# Altium footprint library pinhead.PCBLIB: 100 footprints (part 5 of 7)
Each footprint in its own frame and in the unit in brackets; x right, y up, seen from the top. Pads: shape width x height; smd on the part's side, far side on the other; paste and mask are expansions set on the pad; w line width, h text height; cw(c..) or ccw(c..) is an arc to the next point about the centre after c.
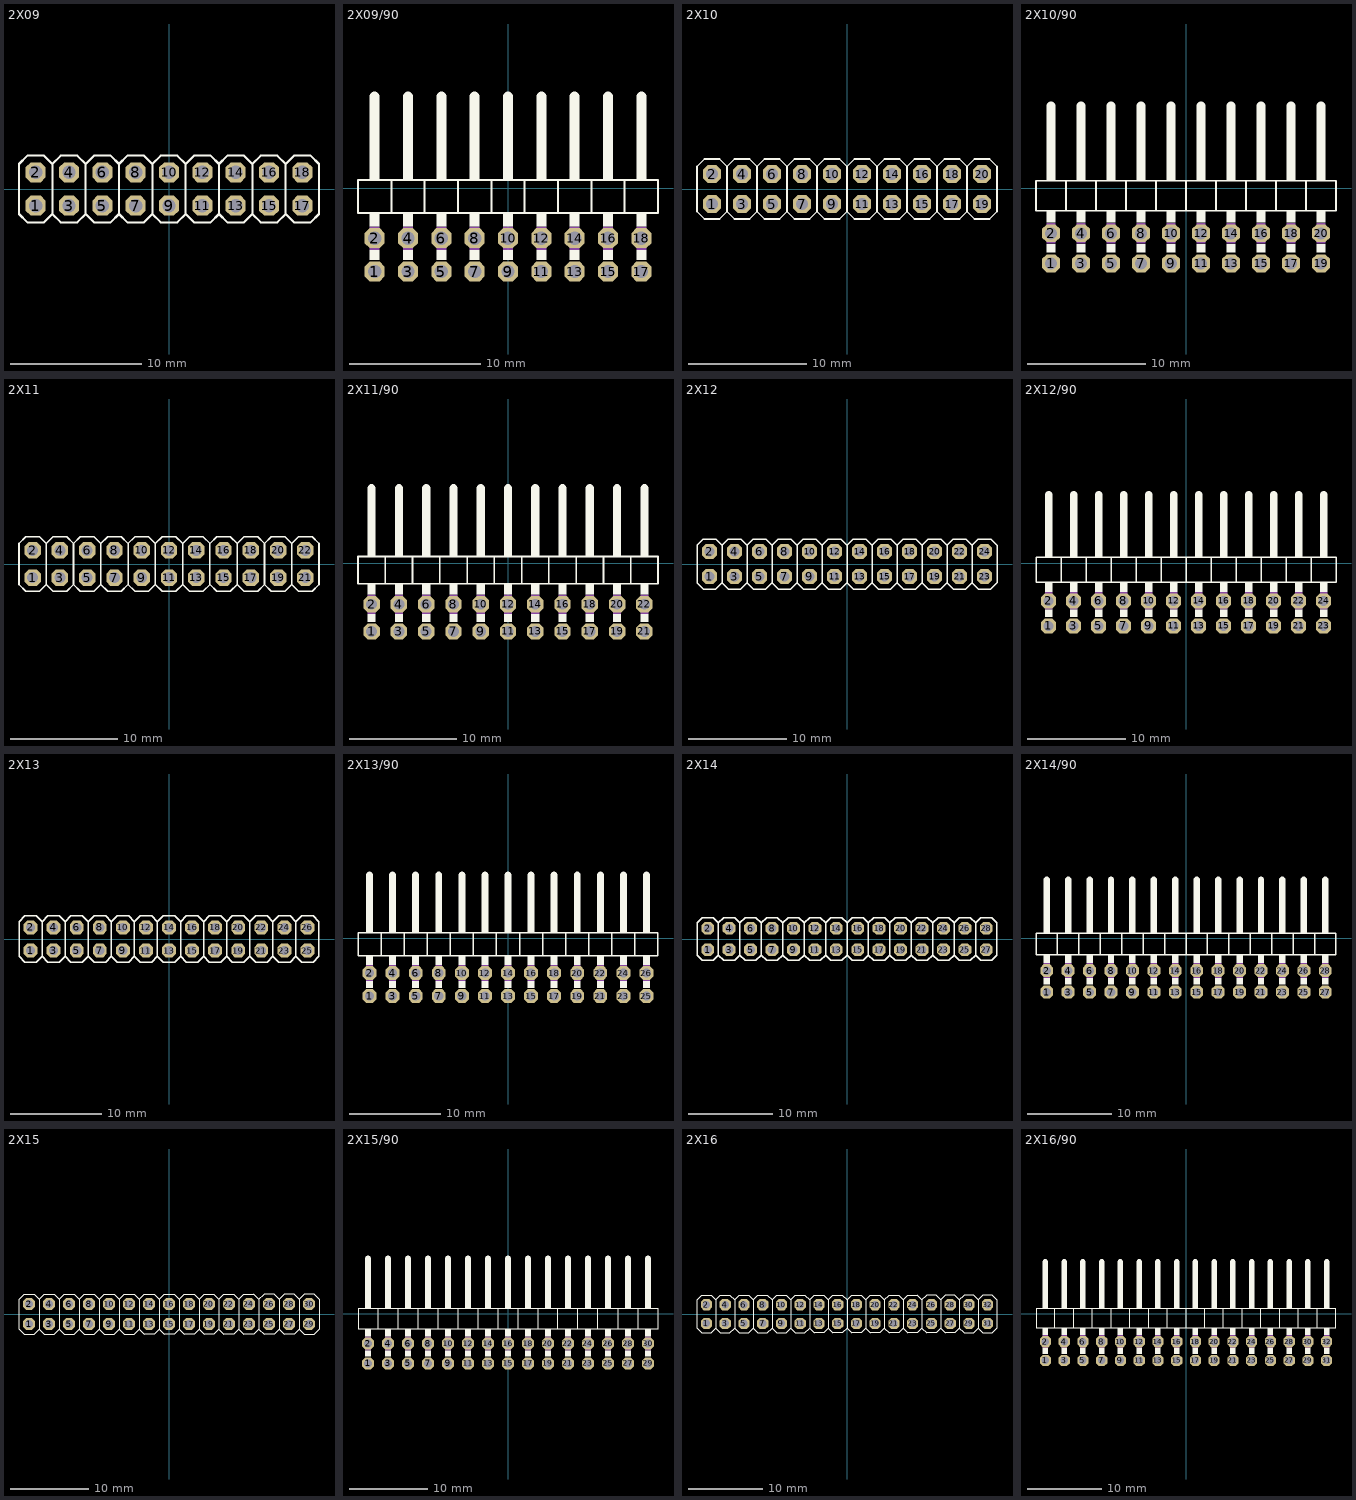
[diagram p4: the footprints below, top view; thin cyan lines are the x and y axes]

## 2X09 [mil]
pads (18):
  oct 60x60 hole 40: 1(-400,-50) 2(-400,50) 3(-300,-50) 4(-300,50) 5(-200,-50) 6(-200,50) 7(-100,-50) 8(-100,50) 9(0,-50) 10(0,50) 11(100,-50) 12(100,50) 13(200,-50) 14(200,50) 15(300,-50) 16(300,50) 17(400,-50) 18(400,50)
Top Overlay:
  lines w6: -350,-75 -375,-100 -425,-100 -450,-75 -450,75 -425,100 -375,100 -350,75 ; -350,-75 -325,-100 -275,-100 -250,-75 ; -350,-75 -350,75 ; -350,75 -325,100 -275,100 -250,75 ; -250,-75 -225,-100 -175,-100 -150,-75 ; -250,-75 -250,75 ; -250,75 -225,100 -175,100 -150,75 ; -150,-75 -125,-100 -75,-100 -50,-75 ; -150,-75 -150,75 ; -150,75 -125,100 -75,100 -50,75 ; -50,-75 -25,-100 25,-100 50,-75 ; -50,-75 -50,75 ; -50,75 -25,100 25,100 50,75 ; 50,-75 75,-100 125,-100 150,-75 ; 50,-75 50,75 ; 50,75 75,100 125,100 150,75 ; 150,-75 175,-100 225,-100 250,-75 ; 150,-75 150,75 ; 150,75 175,100 225,100 250,75 ; 250,-75 275,-100 325,-100 350,-75 ; 250,-75 250,75 ; 250,75 275,100 325,100 350,75 ; 350,-75 350,75 ; 350,-75 375,-100 425,-100 450,-75 450,75 425,100 375,100 350,75
Mechanical 16:
  rectangle: -410,-60 -390,-40
  rectangle: -410,40 -390,60
  rectangle: -310,40 -290,60
  rectangle: -310,-60 -290,-40
  rectangle: -210,40 -190,60
  rectangle: -210,-60 -190,-40
  rectangle: -110,40 -90,60
  rectangle: -10,40 10,60
  rectangle: 90,40 110,60
  rectangle: -110,-60 -90,-40
  rectangle: -10,-60 10,-40
  rectangle: 90,-60 110,-40
  rectangle: 190,40 210,60
  rectangle: 190,-60 210,-40
  rectangle: 290,40 310,60
  rectangle: 290,-60 310,-40
  rectangle: 390,40 410,60
  rectangle: 390,-60 410,-40

## 2X09/90 [mil]
pads (18):
  oct 60x60 hole 40: 1(-400,-250) 2(-400,-150) 3(-300,-250) 4(-300,-150) 5(-200,-250) 6(-200,-150) 7(-100,-250) 8(-100,-150) 9(0,-250) 10(0,-150) 11(100,-250) 12(100,-150) 13(200,-250) 14(200,-150) 15(300,-250) 16(300,-150) 17(400,-250) 18(400,-150)
Top Overlay:
  rectangle: -415,25 -385,45
  rectangle: -315,25 -285,45
  rectangle: -215,25 -185,45
  rectangle: -115,25 -85,45
  rectangle: -15,25 15,45
  rectangle: 85,25 115,45
  rectangle: 185,25 215,45
  rectangle: 285,25 315,45
  rectangle: 385,25 415,45
  rectangle: -415,-115 -385,-75
  rectangle: -315,-115 -285,-75
  rectangle: -415,-215 -385,-185
  rectangle: -315,-215 -285,-185
  rectangle: -215,-115 -185,-75
  rectangle: -115,-115 -85,-75
  rectangle: -215,-215 -185,-185
  rectangle: -115,-215 -85,-185
  rectangle: -15,-115 15,-75
  rectangle: 85,-115 115,-75
  rectangle: -15,-215 15,-185
  rectangle: 85,-215 115,-185
  rectangle: 185,-115 215,-75
  rectangle: 285,-115 315,-75
  rectangle: 185,-215 215,-185
  rectangle: 285,-215 315,-185
  rectangle: 385,-115 415,-75
  rectangle: 385,-215 415,-185
  lines w6: -350,-75 -450,-75 -450,25 -350,25 ; -350,-75 -350,25 ; -350,-75 -250,-75 ; -350,25 -250,25 ; -250,-75 -250,25 ; -250,-75 -150,-75 ; -250,25 -150,25 ; -150,-75 -150,25 ; -150,-75 -50,-75 ; -150,25 -50,25 ; -50,-75 -50,25 ; -50,-75 50,-75 ; -50,25 50,25 ; 50,-75 50,25 ; 50,-75 150,-75 ; 50,25 150,25 ; 150,-75 150,25 ; 150,-75 250,-75 ; 150,25 250,25 ; 250,-75 250,25 ; 250,-75 350,-75 ; 250,25 350,25 ; 350,-75 350,25 ; 350,-75 450,-75 450,25 350,25
  lines w30: -400,50 -400,275 ; -300,50 -300,275 ; -200,50 -200,275 ; -100,50 -100,275 ; 0,50 0,275 ; 100,50 100,275 ; 200,50 200,275 ; 300,50 300,275 ; 400,50 400,275
Mechanical 16:
  rectangle: -415,-185 -385,-115
  rectangle: -315,-185 -285,-115
  rectangle: -215,-185 -185,-115
  rectangle: -115,-185 -85,-115
  rectangle: -15,-185 15,-115
  rectangle: 85,-185 115,-115
  rectangle: 185,-185 215,-115
  rectangle: 285,-185 315,-115
  rectangle: 385,-185 415,-115

## 2X10 [mil]
pads (20):
  oct 60x60 hole 40: 1(-450,-50) 2(-450,50) 3(-350,-50) 4(-350,50) 5(-250,-50) 6(-250,50) 7(-150,-50) 8(-150,50) 9(-50,-50) 10(-50,50) 11(50,-50) 12(50,50) 13(150,-50) 14(150,50) 15(250,-50) 16(250,50) 17(350,-50) 18(350,50) 19(450,-50) 20(450,50)
Top Overlay:
  lines w6: -400,-75 -425,-100 -475,-100 -500,-75 -500,75 -475,100 -425,100 -400,75 ; -400,-75 -375,-100 -325,-100 -300,-75 ; -400,-75 -400,75 ; -400,75 -375,100 -325,100 -300,75 ; -300,-75 -275,-100 -225,-100 -200,-75 ; -300,-75 -300,75 ; -300,75 -275,100 -225,100 -200,75 ; -200,-75 -175,-100 -125,-100 -100,-75 ; -200,-75 -200,75 ; -200,75 -175,100 -125,100 -100,75 ; -100,-75 -75,-100 -25,-100 0,-75 ; -100,-75 -100,75 ; -100,75 -75,100 -25,100 0,75 ; 0,-75 25,-100 75,-100 100,-75 ; 0,-75 0,75 ; 0,75 25,100 75,100 100,75 ; 100,-75 125,-100 175,-100 200,-75 ; 100,-75 100,75 ; 100,75 125,100 175,100 200,75 ; 200,-75 225,-100 275,-100 300,-75 ; 200,-75 200,75 ; 200,75 225,100 275,100 300,75 ; 300,-75 325,-100 375,-100 400,-75 ; 300,-75 300,75 ; 300,75 325,100 375,100 400,75 ; 400,-75 400,75 ; 400,-75 425,-100 475,-100 500,-75 500,75 475,100 425,100 400,75
Mechanical 16:
  rectangle: -460,-60 -440,-40
  rectangle: -460,40 -440,60
  rectangle: -360,40 -340,60
  rectangle: -360,-60 -340,-40
  rectangle: -260,40 -240,60
  rectangle: -260,-60 -240,-40
  rectangle: -160,40 -140,60
  rectangle: -60,40 -40,60
  rectangle: 40,40 60,60
  rectangle: -160,-60 -140,-40
  rectangle: -60,-60 -40,-40
  rectangle: 40,-60 60,-40
  rectangle: 140,40 160,60
  rectangle: 140,-60 160,-40
  rectangle: 240,40 260,60
  rectangle: 240,-60 260,-40
  rectangle: 340,40 360,60
  rectangle: 340,-60 360,-40
  rectangle: 440,40 460,60
  rectangle: 440,-60 460,-40

## 2X10/90 [mil]
pads (20):
  oct 60x60 hole 40: 1(-450,-250) 2(-450,-150) 3(-350,-250) 4(-350,-150) 5(-250,-250) 6(-250,-150) 7(-150,-250) 8(-150,-150) 9(-50,-250) 10(-50,-150) 11(50,-250) 12(50,-150) 13(150,-250) 14(150,-150) 15(250,-250) 16(250,-150) 17(350,-250) 18(350,-150) 19(450,-250) 20(450,-150)
Top Overlay:
  rectangle: -465,25 -435,45
  rectangle: -365,25 -335,45
  rectangle: -265,25 -235,45
  rectangle: -165,25 -135,45
  rectangle: -65,25 -35,45
  rectangle: 35,25 65,45
  rectangle: 135,25 165,45
  rectangle: 235,25 265,45
  rectangle: 335,25 365,45
  rectangle: 435,25 465,45
  rectangle: -465,-115 -435,-75
  rectangle: -365,-115 -335,-75
  rectangle: -465,-215 -435,-185
  rectangle: -365,-215 -335,-185
  rectangle: -265,-115 -235,-75
  rectangle: -165,-115 -135,-75
  rectangle: -265,-215 -235,-185
  rectangle: -165,-215 -135,-185
  rectangle: -65,-115 -35,-75
  rectangle: 35,-115 65,-75
  rectangle: -65,-215 -35,-185
  rectangle: 35,-215 65,-185
  rectangle: 135,-115 165,-75
  rectangle: 235,-115 265,-75
  rectangle: 135,-215 165,-185
  rectangle: 235,-215 265,-185
  rectangle: 335,-115 365,-75
  rectangle: 435,-115 465,-75
  rectangle: 335,-215 365,-185
  rectangle: 435,-215 465,-185
  lines w6: -400,-75 -500,-75 -500,25 -400,25 ; -400,-75 -400,25 ; -400,-75 -300,-75 ; -400,25 -300,25 ; -300,-75 -300,25 ; -300,-75 -200,-75 ; -300,25 -200,25 ; -200,-75 -200,25 ; -200,-75 -100,-75 ; -200,25 -100,25 ; -100,-75 -100,25 ; -100,-75 0,-75 ; -100,25 0,25 ; 0,-75 0,25 ; 0,-75 100,-75 ; 0,25 100,25 ; 100,-75 100,25 ; 100,-75 200,-75 ; 100,25 200,25 ; 200,-75 200,25 ; 200,-75 300,-75 ; 200,25 300,25 ; 300,-75 300,25 ; 300,-75 400,-75 ; 300,25 400,25 ; 400,-75 400,25 ; 400,-75 500,-75 500,25 400,25
  lines w30: -450,50 -450,275 ; -350,50 -350,275 ; -250,50 -250,275 ; -150,50 -150,275 ; -50,50 -50,275 ; 50,50 50,275 ; 150,50 150,275 ; 250,50 250,275 ; 350,50 350,275 ; 450,50 450,275
Mechanical 16:
  rectangle: -465,-185 -435,-115
  rectangle: -365,-185 -335,-115
  rectangle: -265,-185 -235,-115
  rectangle: -165,-185 -135,-115
  rectangle: -65,-185 -35,-115
  rectangle: 35,-185 65,-115
  rectangle: 135,-185 165,-115
  rectangle: 235,-185 265,-115
  rectangle: 335,-185 365,-115
  rectangle: 435,-185 465,-115

## 2X11 [mil]
pads (22):
  oct 60x60 hole 40: 1(-500,-50) 2(-500,50) 3(-400,-50) 4(-400,50) 5(-300,-50) 6(-300,50) 7(-200,-50) 8(-200,50) 9(-100,-50) 10(-100,50) 11(0,-50) 12(0,50) 13(100,-50) 14(100,50) 15(200,-50) 16(200,50) 17(300,-50) 18(300,50) 19(400,-50) 20(400,50) 21(500,-50) 22(500,50)
Top Overlay:
  lines w6: -450,-75 -475,-100 -525,-100 -550,-75 -550,75 -525,100 -475,100 -450,75 ; -450,-75 -425,-100 -375,-100 -350,-75 ; -450,-75 -450,75 ; -450,75 -425,100 -375,100 -350,75 ; -350,-75 -325,-100 -275,-100 -250,-75 ; -350,-75 -350,75 ; -350,75 -325,100 -275,100 -250,75 ; -250,-75 -225,-100 -175,-100 -150,-75 ; -250,-75 -250,75 ; -250,75 -225,100 -175,100 -150,75 ; -150,-75 -125,-100 -75,-100 -50,-75 ; -150,-75 -150,75 ; -150,75 -125,100 -75,100 -50,75 ; -50,-75 -25,-100 25,-100 50,-75 ; -50,-75 -50,75 ; -50,75 -25,100 25,100 50,75 ; 50,-75 75,-100 125,-100 150,-75 ; 50,-75 50,75 ; 50,75 75,100 125,100 150,75 ; 150,-75 175,-100 225,-100 250,-75 ; 150,-75 150,75 ; 150,75 175,100 225,100 250,75 ; 250,-75 275,-100 325,-100 350,-75 ; 250,-75 250,75 ; 250,75 275,100 325,100 350,75 ; 350,-75 375,-100 425,-100 450,-75 ; 350,-75 350,75 ; 350,75 375,100 425,100 450,75 ; 450,-75 450,75 ; 450,-75 475,-100 525,-100 550,-75 550,75 525,100 475,100 450,75
Mechanical 16:
  rectangle: -510,-60 -490,-40
  rectangle: -510,40 -490,60
  rectangle: -410,40 -390,60
  rectangle: -410,-60 -390,-40
  rectangle: -310,40 -290,60
  rectangle: -310,-60 -290,-40
  rectangle: -210,40 -190,60
  rectangle: -110,40 -90,60
  rectangle: -10,40 10,60
  rectangle: -210,-60 -190,-40
  rectangle: -110,-60 -90,-40
  rectangle: -10,-60 10,-40
  rectangle: 90,40 110,60
  rectangle: 90,-60 110,-40
  rectangle: 190,40 210,60
  rectangle: 190,-60 210,-40
  rectangle: 290,40 310,60
  rectangle: 290,-60 310,-40
  rectangle: 390,40 410,60
  rectangle: 390,-60 410,-40
  rectangle: 490,40 510,60
  rectangle: 490,-60 510,-40

## 2X11/90 [mil]
pads (22):
  oct 60x60 hole 40: 1(-500,-250) 2(-500,-150) 3(-400,-250) 4(-400,-150) 5(-300,-250) 6(-300,-150) 7(-200,-250) 8(-200,-150) 9(-100,-250) 10(-100,-150) 11(0,-250) 12(0,-150) 13(100,-250) 14(100,-150) 15(200,-250) 16(200,-150) 17(300,-250) 18(300,-150) 19(400,-250) 20(400,-150) 21(500,-250) 22(500,-150)
Top Overlay:
  rectangle: -515,25 -485,45
  rectangle: -415,25 -385,45
  rectangle: -315,25 -285,45
  rectangle: -215,25 -185,45
  rectangle: -115,25 -85,45
  rectangle: -15,25 15,45
  rectangle: 85,25 115,45
  rectangle: 185,25 215,45
  rectangle: 285,25 315,45
  rectangle: 385,25 415,45
  rectangle: 485,25 515,45
  rectangle: -515,-115 -485,-75
  rectangle: -415,-115 -385,-75
  rectangle: -515,-215 -485,-185
  rectangle: -415,-215 -385,-185
  rectangle: -315,-115 -285,-75
  rectangle: -215,-115 -185,-75
  rectangle: -315,-215 -285,-185
  rectangle: -215,-215 -185,-185
  rectangle: -115,-115 -85,-75
  rectangle: -15,-115 15,-75
  rectangle: -115,-215 -85,-185
  rectangle: -15,-215 15,-185
  rectangle: 85,-115 115,-75
  rectangle: 185,-115 215,-75
  rectangle: 85,-215 115,-185
  rectangle: 185,-215 215,-185
  rectangle: 285,-115 315,-75
  rectangle: 385,-115 415,-75
  rectangle: 285,-215 315,-185
  rectangle: 385,-215 415,-185
  rectangle: 485,-115 515,-75
  rectangle: 485,-215 515,-185
  lines w6: -450,-75 -550,-75 -550,25 -450,25 ; -450,-75 -450,25 ; -450,-75 -350,-75 ; -450,25 -350,25 ; -350,-75 -350,25 ; -350,-75 -250,-75 ; -350,25 -250,25 ; -250,-75 -250,25 ; -250,-75 -150,-75 ; -250,25 -150,25 ; -150,-75 -150,25 ; -150,-75 -50,-75 ; -150,25 -50,25 ; -50,-75 -50,25 ; -50,-75 50,-75 ; -50,25 50,25 ; 50,-75 50,25 ; 50,-75 150,-75 ; 50,25 150,25 ; 150,-75 150,25 ; 150,-75 250,-75 ; 150,25 250,25 ; 250,-75 250,25 ; 250,-75 350,-75 ; 250,25 350,25 ; 350,-75 350,25 ; 350,-75 450,-75 ; 350,25 450,25 ; 450,-75 450,25 ; 450,-75 550,-75 550,25 450,25
  lines w30: -500,50 -500,275 ; -400,50 -400,275 ; -300,50 -300,275 ; -200,50 -200,275 ; -100,50 -100,275 ; 0,50 0,275 ; 100,50 100,275 ; 200,50 200,275 ; 300,50 300,275 ; 400,50 400,275 ; 500,50 500,275
Mechanical 16:
  rectangle: -515,-185 -485,-115
  rectangle: -415,-185 -385,-115
  rectangle: -315,-185 -285,-115
  rectangle: -215,-185 -185,-115
  rectangle: -115,-185 -85,-115
  rectangle: -15,-185 15,-115
  rectangle: 85,-185 115,-115
  rectangle: 185,-185 215,-115
  rectangle: 285,-185 315,-115
  rectangle: 385,-185 415,-115
  rectangle: 485,-185 515,-115

## 2X12 [mil]
pads (24):
  oct 60x60 hole 40: 1(-550,-50) 2(-550,50) 3(-450,-50) 4(-450,50) 5(-350,-50) 6(-350,50) 7(-250,-50) 8(-250,50) 9(-150,-50) 10(-150,50) 11(-50,-50) 12(-50,50) 13(50,-50) 14(50,50) 15(150,-50) 16(150,50) 17(250,-50) 18(250,50) 19(350,-50) 20(350,50) 21(450,-50) 22(450,50) 23(550,-50) 24(550,50)
Top Overlay:
  lines w6: -500,-75 -525,-100 -575,-100 -600,-75 -600,75 -575,100 -525,100 -500,75 ; -500,-75 -475,-100 -425,-100 -400,-75 ; -500,-75 -500,75 ; -500,75 -475,100 -425,100 -400,75 ; -400,-75 -375,-100 -325,-100 -300,-75 ; -400,-75 -400,75 ; -400,75 -375,100 -325,100 -300,75 ; -300,-75 -275,-100 -225,-100 -200,-75 ; -300,-75 -300,75 ; -300,75 -275,100 -225,100 -200,75 ; -200,-75 -175,-100 -125,-100 -100,-75 ; -200,-75 -200,75 ; -200,75 -175,100 -125,100 -100,75 ; -100,-75 -75,-100 -25,-100 0,-75 ; -100,-75 -100,75 ; -100,75 -75,100 -25,100 0,75 ; 0,-75 25,-100 75,-100 100,-75 ; 0,-75 0,75 ; 0,75 25,100 75,100 100,75 ; 100,-75 125,-100 175,-100 200,-75 ; 100,-75 100,75 ; 100,75 125,100 175,100 200,75 ; 200,-75 225,-100 275,-100 300,-75 ; 200,-75 200,75 ; 200,75 225,100 275,100 300,75 ; 300,-75 325,-100 375,-100 400,-75 ; 300,-75 300,75 ; 300,75 325,100 375,100 400,75 ; 400,-75 425,-100 475,-100 500,-75 ; 400,-75 400,75 ; 400,75 425,100 475,100 500,75 ; 500,-75 500,75 ; 500,-75 525,-100 575,-100 600,-75 600,75 575,100 525,100 500,75
Mechanical 16:
  rectangle: -560,-60 -540,-40
  rectangle: -560,40 -540,60
  rectangle: -460,40 -440,60
  rectangle: -460,-60 -440,-40
  rectangle: -360,40 -340,60
  rectangle: -360,-60 -340,-40
  rectangle: -260,40 -240,60
  rectangle: -160,40 -140,60
  rectangle: -60,40 -40,60
  rectangle: -260,-60 -240,-40
  rectangle: -160,-60 -140,-40
  rectangle: -60,-60 -40,-40
  rectangle: 40,40 60,60
  rectangle: 40,-60 60,-40
  rectangle: 140,40 160,60
  rectangle: 140,-60 160,-40
  rectangle: 240,40 260,60
  rectangle: 240,-60 260,-40
  rectangle: 340,40 360,60
  rectangle: 340,-60 360,-40
  rectangle: 440,40 460,60
  rectangle: 440,-60 460,-40
  rectangle: 540,40 560,60
  rectangle: 540,-60 560,-40

## 2X12/90 [mil]
pads (24):
  oct 60x60 hole 40: 1(-550,-250) 2(-550,-150) 3(-450,-250) 4(-450,-150) 5(-350,-250) 6(-350,-150) 7(-250,-250) 8(-250,-150) 9(-150,-250) 10(-150,-150) 11(-50,-250) 12(-50,-150) 13(50,-250) 14(50,-150) 15(150,-250) 16(150,-150) 17(250,-250) 18(250,-150) 19(350,-250) 20(350,-150) 21(450,-250) 22(450,-150) 23(550,-250) 24(550,-150)
Top Overlay:
  rectangle: -565,25 -535,45
  rectangle: -465,25 -435,45
  rectangle: -365,25 -335,45
  rectangle: -265,25 -235,45
  rectangle: -165,25 -135,45
  rectangle: -65,25 -35,45
  rectangle: 35,25 65,45
  rectangle: 135,25 165,45
  rectangle: 235,25 265,45
  rectangle: 335,25 365,45
  rectangle: 435,25 465,45
  rectangle: 535,25 565,45
  rectangle: -565,-115 -535,-75
  rectangle: -465,-115 -435,-75
  rectangle: -565,-215 -535,-185
  rectangle: -465,-215 -435,-185
  rectangle: -365,-115 -335,-75
  rectangle: -265,-115 -235,-75
  rectangle: -365,-215 -335,-185
  rectangle: -265,-215 -235,-185
  rectangle: -165,-115 -135,-75
  rectangle: -65,-115 -35,-75
  rectangle: -165,-215 -135,-185
  rectangle: -65,-215 -35,-185
  rectangle: 35,-115 65,-75
  rectangle: 135,-115 165,-75
  rectangle: 35,-215 65,-185
  rectangle: 135,-215 165,-185
  rectangle: 235,-115 265,-75
  rectangle: 335,-115 365,-75
  rectangle: 235,-215 265,-185
  rectangle: 335,-215 365,-185
  rectangle: 435,-115 465,-75
  rectangle: 535,-115 565,-75
  rectangle: 435,-215 465,-185
  rectangle: 535,-215 565,-185
  lines w6: -500,-75 -600,-75 -600,25 -500,25 ; -500,-75 -500,25 ; -500,-75 -400,-75 ; -500,25 -400,25 ; -400,-75 -400,25 ; -400,-75 -300,-75 ; -400,25 -300,25 ; -300,-75 -300,25 ; -300,-75 -200,-75 ; -300,25 -200,25 ; -200,-75 -200,25 ; -200,-75 -100,-75 ; -200,25 -100,25 ; -100,-75 -100,25 ; -100,-75 0,-75 ; -100,25 0,25 ; 0,-75 0,25 ; 0,-75 100,-75 ; 0,25 100,25 ; 100,-75 100,25 ; 100,-75 200,-75 ; 100,25 200,25 ; 200,-75 200,25 ; 200,-75 300,-75 ; 200,25 300,25 ; 300,-75 300,25 ; 300,-75 400,-75 ; 300,25 400,25 ; 400,-75 400,25 ; 400,-75 500,-75 ; 400,25 500,25 ; 500,-75 500,25 ; 500,-75 600,-75 600,25 500,25
  lines w30: -550,50 -550,275 ; -450,50 -450,275 ; -350,50 -350,275 ; -250,50 -250,275 ; -150,50 -150,275 ; -50,50 -50,275 ; 50,50 50,275 ; 150,50 150,275 ; 250,50 250,275 ; 350,50 350,275 ; 450,50 450,275 ; 550,50 550,275
Mechanical 16:
  rectangle: -565,-185 -535,-115
  rectangle: -465,-185 -435,-115
  rectangle: -365,-185 -335,-115
  rectangle: -265,-185 -235,-115
  rectangle: -165,-185 -135,-115
  rectangle: -65,-185 -35,-115
  rectangle: 35,-185 65,-115
  rectangle: 135,-185 165,-115
  rectangle: 235,-185 265,-115
  rectangle: 335,-185 365,-115
  rectangle: 435,-185 465,-115
  rectangle: 535,-185 565,-115

## 2X13 [mil]
pads (26):
  oct 60x60 hole 40: 1(-600,-50) 2(-600,50) 3(-500,-50) 4(-500,50) 5(-400,-50) 6(-400,50) 7(-300,-50) 8(-300,50) 9(-200,-50) 10(-200,50) 11(-100,-50) 12(-100,50) 13(0,-50) 14(0,50) 15(100,-50) 16(100,50) 17(200,-50) 18(200,50) 19(300,-50) 20(300,50) 21(400,-50) 22(400,50) 23(500,-50) 24(500,50) 25(600,-50) 26(600,50)
Top Overlay:
  rectangle: -610,-60 -590,-40
  rectangle: -610,40 -590,60
  rectangle: -510,40 -490,60
  rectangle: -510,-60 -490,-40
  rectangle: -410,40 -390,60
  rectangle: -410,-60 -390,-40
  rectangle: -310,40 -290,60
  rectangle: -210,40 -190,60
  rectangle: -110,40 -90,60
  rectangle: -310,-60 -290,-40
  rectangle: -210,-60 -190,-40
  rectangle: -110,-60 -90,-40
  rectangle: -10,40 10,60
  rectangle: -10,-60 10,-40
  rectangle: 90,40 110,60
  rectangle: 90,-60 110,-40
  rectangle: 190,40 210,60
  rectangle: 190,-60 210,-40
  rectangle: 290,40 310,60
  rectangle: 290,-60 310,-40
  rectangle: 390,40 410,60
  rectangle: 390,-60 410,-40
  rectangle: 490,40 510,60
  rectangle: 490,-60 510,-40
  rectangle: 590,40 610,60
  rectangle: 590,-60 610,-40
  lines w6: -550,-75 -575,-100 -625,-100 -650,-75 -650,75 -625,100 -575,100 -550,75 ; -550,-75 -525,-100 -475,-100 -450,-75 ; -550,-75 -550,75 ; -550,75 -525,100 -475,100 -450,75 ; -450,-75 -425,-100 -375,-100 -350,-75 ; -450,-75 -450,75 ; -450,75 -425,100 -375,100 -350,75 ; -350,-75 -325,-100 -275,-100 -250,-75 ; -350,-75 -350,75 ; -350,75 -325,100 -275,100 -250,75 ; -250,-75 -225,-100 -175,-100 -150,-75 ; -250,-75 -250,75 ; -250,75 -225,100 -175,100 -150,75 ; -150,-75 -125,-100 -75,-100 -50,-75 ; -150,-75 -150,75 ; -150,75 -125,100 -75,100 -50,75 ; -50,-75 -25,-100 25,-100 50,-75 ; -50,-75 -50,75 ; -50,75 -25,100 25,100 50,75 ; 50,-75 75,-100 125,-100 150,-75 ; 50,-75 50,75 ; 50,75 75,100 125,100 150,75 ; 150,-75 175,-100 225,-100 250,-75 ; 150,-75 150,75 ; 150,75 175,100 225,100 250,75 ; 250,-75 275,-100 325,-100 350,-75 ; 250,-75 250,75 ; 250,75 275,100 325,100 350,75 ; 350,-75 375,-100 425,-100 450,-75 ; 350,-75 350,75 ; 350,75 375,100 425,100 450,75 ; 450,-75 475,-100 525,-100 550,-75 ; 450,-75 450,75 ; 450,75 475,100 525,100 550,75 ; 550,-75 550,75 ; 550,-75 575,-100 625,-100 650,-75 650,75 625,100 575,100 550,75

## 2X13/90 [mil]
pads (26):
  oct 60x60 hole 40: 1(-600,-250) 2(-600,-150) 3(-500,-250) 4(-500,-150) 5(-400,-250) 6(-400,-150) 7(-300,-250) 8(-300,-150) 9(-200,-250) 10(-200,-150) 11(-100,-250) 12(-100,-150) 13(0,-250) 14(0,-150) 15(100,-250) 16(100,-150) 17(200,-250) 18(200,-150) 19(300,-250) 20(300,-150) 21(400,-250) 22(400,-150) 23(500,-250) 24(500,-150) 25(600,-250) 26(600,-150)
Top Overlay:
  rectangle: -615,25 -585,45
  rectangle: -515,25 -485,45
  rectangle: -415,25 -385,45
  rectangle: -315,25 -285,45
  rectangle: -215,25 -185,45
  rectangle: -115,25 -85,45
  rectangle: -15,25 15,45
  rectangle: 85,25 115,45
  rectangle: 185,25 215,45
  rectangle: 285,25 315,45
  rectangle: 385,25 415,45
  rectangle: 485,25 515,45
  rectangle: 585,25 615,45
  rectangle: -615,-115 -585,-75
  rectangle: -515,-115 -485,-75
  rectangle: -615,-215 -585,-185
  rectangle: -515,-215 -485,-185
  rectangle: -415,-115 -385,-75
  rectangle: -315,-115 -285,-75
  rectangle: -415,-215 -385,-185
  rectangle: -315,-215 -285,-185
  rectangle: -215,-115 -185,-75
  rectangle: -115,-115 -85,-75
  rectangle: -215,-215 -185,-185
  rectangle: -115,-215 -85,-185
  rectangle: -15,-115 15,-75
  rectangle: 85,-115 115,-75
  rectangle: -15,-215 15,-185
  rectangle: 85,-215 115,-185
  rectangle: 185,-115 215,-75
  rectangle: 285,-115 315,-75
  rectangle: 185,-215 215,-185
  rectangle: 285,-215 315,-185
  rectangle: 385,-115 415,-75
  rectangle: 485,-115 515,-75
  rectangle: 385,-215 415,-185
  rectangle: 485,-215 515,-185
  rectangle: 585,-115 615,-75
  rectangle: 585,-215 615,-185
  lines w6: -550,-75 -650,-75 -650,25 -550,25 ; -550,-75 -550,25 ; -550,-75 -450,-75 ; -550,25 -450,25 ; -450,-75 -450,25 ; -450,-75 -350,-75 ; -450,25 -350,25 ; -350,-75 -350,25 ; -350,-75 -250,-75 ; -350,25 -250,25 ; -250,-75 -250,25 ; -250,-75 -150,-75 ; -250,25 -150,25 ; -150,-75 -150,25 ; -150,-75 -50,-75 ; -150,25 -50,25 ; -50,-75 -50,25 ; -50,-75 50,-75 ; -50,25 50,25 ; 50,-75 50,25 ; 50,-75 150,-75 ; 50,25 150,25 ; 150,-75 150,25 ; 150,-75 250,-75 ; 150,25 250,25 ; 250,-75 250,25 ; 250,-75 350,-75 ; 250,25 350,25 ; 350,-75 350,25 ; 350,-75 450,-75 ; 350,25 450,25 ; 450,-75 450,25 ; 450,-75 550,-75 ; 450,25 550,25 ; 550,-75 550,25 ; 550,-75 650,-75 650,25 550,25
  lines w30: -600,50 -600,275 ; -500,50 -500,275 ; -400,50 -400,275 ; -300,50 -300,275 ; -200,50 -200,275 ; -100,50 -100,275 ; 0,50 0,275 ; 100,50 100,275 ; 200,50 200,275 ; 300,50 300,275 ; 400,50 400,275 ; 500,50 500,275 ; 600,50 600,275
Mechanical 16:
  rectangle: -615,-185 -585,-115
  rectangle: -515,-185 -485,-115
  rectangle: -415,-185 -385,-115
  rectangle: -315,-185 -285,-115
  rectangle: -215,-185 -185,-115
  rectangle: -115,-185 -85,-115
  rectangle: -15,-185 15,-115
  rectangle: 85,-185 115,-115
  rectangle: 185,-185 215,-115
  rectangle: 285,-185 315,-115
  rectangle: 385,-185 415,-115
  rectangle: 485,-185 515,-115
  rectangle: 585,-185 615,-115

## 2X14 [mil]
pads (28):
  oct 60x60 hole 40: 1(-650,-50) 2(-650,50) 3(-550,-50) 4(-550,50) 5(-450,-50) 6(-450,50) 7(-350,-50) 8(-350,50) 9(-250,-50) 10(-250,50) 11(-150,-50) 12(-150,50) 13(-50,-50) 14(-50,50) 15(50,-50) 16(50,50) 17(150,-50) 18(150,50) 19(250,-50) 20(250,50) 21(350,-50) 22(350,50) 23(450,-50) 24(450,50) 25(550,-50) 26(550,50) 27(650,-50) 28(650,50)
Top Overlay:
  lines w6: -600,-75 -625,-100 -675,-100 -700,-75 -700,75 -675,100 -625,100 -600,75 ; -600,-75 -575,-100 -525,-100 -500,-75 ; -600,-75 -600,75 ; -600,75 -575,100 -525,100 -500,75 ; -500,-75 -475,-100 -425,-100 -400,-75 ; -500,-75 -500,75 ; -500,75 -475,100 -425,100 -400,75 ; -400,-75 -375,-100 -325,-100 -300,-75 ; -400,-75 -400,75 ; -400,75 -375,100 -325,100 -300,75 ; -300,-75 -275,-100 -225,-100 -200,-75 ; -300,-75 -300,75 ; -300,75 -275,100 -225,100 -200,75 ; -200,-75 -175,-100 -125,-100 -100,-75 ; -200,-75 -200,75 ; -200,75 -175,100 -125,100 -100,75 ; -100,-75 -75,-100 -25,-100 0,-75 ; -100,-75 -100,75 ; -100,75 -75,100 -25,100 0,75 ; 0,-75 25,-100 75,-100 100,-75 ; 0,-75 0,75 ; 0,75 25,100 75,100 100,75 ; 100,-75 125,-100 175,-100 200,-75 ; 100,-75 100,75 ; 100,75 125,100 175,100 200,75 ; 200,-75 225,-100 275,-100 300,-75 ; 200,-75 200,75 ; 200,75 225,100 275,100 300,75 ; 300,-75 325,-100 375,-100 400,-75 ; 300,-75 300,75 ; 300,75 325,100 375,100 400,75 ; 400,-75 425,-100 475,-100 500,-75 ; 400,-75 400,75 ; 400,75 425,100 475,100 500,75 ; 500,-75 525,-100 575,-100 600,-75 ; 500,-75 500,75 ; 500,75 525,100 575,100 600,75 ; 600,-75 600,75 ; 600,-75 625,-100 675,-100 700,-75 700,75 675,100 625,100 600,75
Mechanical 16:
  rectangle: -660,-60 -640,-40
  rectangle: -660,40 -640,60
  rectangle: -560,40 -540,60
  rectangle: -560,-60 -540,-40
  rectangle: -460,40 -440,60
  rectangle: -460,-60 -440,-40
  rectangle: -360,40 -340,60
  rectangle: -260,40 -240,60
  rectangle: -160,40 -140,60
  rectangle: -360,-60 -340,-40
  rectangle: -260,-60 -240,-40
  rectangle: -160,-60 -140,-40
  rectangle: -60,40 -40,60
  rectangle: -60,-60 -40,-40
  rectangle: 40,40 60,60
  rectangle: 40,-60 60,-40
  rectangle: 140,40 160,60
  rectangle: 140,-60 160,-40
  rectangle: 240,40 260,60
  rectangle: 240,-60 260,-40
  rectangle: 340,40 360,60
  rectangle: 340,-60 360,-40
  rectangle: 440,40 460,60
  rectangle: 440,-60 460,-40
  rectangle: 540,40 560,60
  rectangle: 540,-60 560,-40
  rectangle: 640,40 660,60
  rectangle: 640,-60 660,-40

## 2X14/90 [mil]
pads (28):
  oct 60x60 hole 40: 1(-650,-250) 2(-650,-150) 3(-550,-250) 4(-550,-150) 5(-450,-250) 6(-450,-150) 7(-350,-250) 8(-350,-150) 9(-250,-250) 10(-250,-150) 11(-150,-250) 12(-150,-150) 13(-50,-250) 14(-50,-150) 15(50,-250) 16(50,-150) 17(150,-250) 18(150,-150) 19(250,-250) 20(250,-150) 21(350,-250) 22(350,-150) 23(450,-250) 24(450,-150) 25(550,-250) 26(550,-150) 27(650,-250) 28(650,-150)
Top Overlay:
  rectangle: -665,25 -635,45
  rectangle: -565,25 -535,45
  rectangle: -465,25 -435,45
  rectangle: -365,25 -335,45
  rectangle: -265,25 -235,45
  rectangle: -165,25 -135,45
  rectangle: -65,25 -35,45
  rectangle: 35,25 65,45
  rectangle: 135,25 165,45
  rectangle: 235,25 265,45
  rectangle: 335,25 365,45
  rectangle: 435,25 465,45
  rectangle: 535,25 565,45
  rectangle: 635,25 665,45
  rectangle: -665,-115 -635,-75
  rectangle: -565,-115 -535,-75
  rectangle: -665,-215 -635,-185
  rectangle: -565,-215 -535,-185
  rectangle: -465,-115 -435,-75
  rectangle: -365,-115 -335,-75
  rectangle: -465,-215 -435,-185
  rectangle: -365,-215 -335,-185
  rectangle: -265,-115 -235,-75
  rectangle: -165,-115 -135,-75
  rectangle: -265,-215 -235,-185
  rectangle: -165,-215 -135,-185
  rectangle: -65,-115 -35,-75
  rectangle: 35,-115 65,-75
  rectangle: -65,-215 -35,-185
  rectangle: 35,-215 65,-185
  rectangle: 135,-115 165,-75
  rectangle: 235,-115 265,-75
  rectangle: 135,-215 165,-185
  rectangle: 235,-215 265,-185
  rectangle: 335,-115 365,-75
  rectangle: 435,-115 465,-75
  rectangle: 335,-215 365,-185
  rectangle: 435,-215 465,-185
  rectangle: 535,-115 565,-75
  rectangle: 635,-115 665,-75
  rectangle: 535,-215 565,-185
  rectangle: 635,-215 665,-185
  lines w6: -600,-75 -700,-75 -700,25 -600,25 ; -600,-75 -600,25 ; -600,-75 -500,-75 ; -600,25 -500,25 ; -500,-75 -500,25 ; -500,-75 -400,-75 ; -500,25 -400,25 ; -400,-75 -400,25 ; -400,-75 -300,-75 ; -400,25 -300,25 ; -300,-75 -300,25 ; -300,-75 -200,-75 ; -300,25 -200,25 ; -200,-75 -200,25 ; -200,-75 -100,-75 ; -200,25 -100,25 ; -100,-75 -100,25 ; -100,-75 0,-75 ; -100,25 0,25 ; 0,-75 0,25 ; 0,-75 100,-75 ; 0,25 100,25 ; 100,-75 100,25 ; 100,-75 200,-75 ; 100,25 200,25 ; 200,-75 200,25 ; 200,-75 300,-75 ; 200,25 300,25 ; 300,-75 300,25 ; 300,-75 400,-75 ; 300,25 400,25 ; 400,-75 400,25 ; 400,-75 500,-75 ; 400,25 500,25 ; 500,-75 500,25 ; 500,-75 600,-75 ; 500,25 600,25 ; 600,-75 600,25 ; 600,-75 700,-75 700,25 600,25
  lines w30: -650,50 -650,275 ; -550,50 -550,275 ; -450,50 -450,275 ; -350,50 -350,275 ; -250,50 -250,275 ; -150,50 -150,275 ; -50,50 -50,275 ; 50,50 50,275 ; 150,50 150,275 ; 250,50 250,275 ; 350,50 350,275 ; 450,50 450,275 ; 550,50 550,275 ; 650,50 650,275
Mechanical 16:
  rectangle: -665,-185 -635,-115
  rectangle: -565,-185 -535,-115
  rectangle: -465,-185 -435,-115
  rectangle: -365,-185 -335,-115
  rectangle: -265,-185 -235,-115
  rectangle: -165,-185 -135,-115
  rectangle: -65,-185 -35,-115
  rectangle: 35,-185 65,-115
  rectangle: 135,-185 165,-115
  rectangle: 235,-185 265,-115
  rectangle: 335,-185 365,-115
  rectangle: 435,-185 465,-115
  rectangle: 535,-185 565,-115
  rectangle: 635,-185 665,-115

## 2X15 [mil]
pads (30):
  oct 60x60 hole 40: 1(-700,-50) 2(-700,50) 3(-600,-50) 4(-600,50) 5(-500,-50) 6(-500,50) 7(-400,-50) 8(-400,50) 9(-300,-50) 10(-300,50) 11(-200,-50) 12(-200,50) 13(-100,-50) 14(-100,50) 15(0,-50) 16(0,50) 17(100,-50) 18(100,50) 19(200,-50) 20(200,50) 21(300,-50) 22(300,50) 23(400,-50) 24(400,50) 25(500,-50) 26(500,50) 27(600,-50) 28(600,50) 29(700,-50) 30(700,50)
Top Overlay:
  lines w6: -650,-75 -675,-100 -725,-100 -750,-75 -750,75 -725,100 -675,100 -650,75 ; -650,-75 -625,-100 -575,-100 -550,-75 ; -650,-75 -650,75 ; -650,75 -625,100 -575,100 -550,75 ; -550,-75 -525,-100 -475,-100 -450,-75 ; -550,-75 -550,75 ; -550,75 -525,100 -475,100 -450,75 ; -450,-75 -425,-100 -375,-100 -350,-75 ; -450,-75 -450,75 ; -450,75 -425,100 -375,100 -350,75 ; -350,-75 -325,-100 -275,-100 -250,-75 ; -350,-75 -350,75 ; -350,75 -325,100 -275,100 -250,75 ; -250,-75 -225,-100 -175,-100 -150,-75 ; -250,-75 -250,75 ; -250,75 -225,100 -175,100 -150,75 ; -150,-75 -125,-100 -75,-100 -50,-75 ; -150,-75 -150,75 ; -150,75 -125,100 -75,100 -50,75 ; -50,-75 -25,-100 25,-100 50,-75 ; -50,-75 -50,75 ; -50,75 -25,100 25,100 50,75 ; 50,-75 75,-100 125,-100 150,-75 ; 50,-75 50,75 ; 50,75 75,100 125,100 150,75 ; 150,-75 175,-100 225,-100 250,-75 ; 150,-75 150,75 ; 150,75 175,100 225,100 250,75 ; 250,-75 275,-100 325,-100 350,-75 ; 250,-75 250,75 ; 250,75 275,100 325,100 350,75 ; 350,-75 375,-100 425,-100 450,-75 ; 350,-75 350,75 ; 350,75 375,100 425,100 450,75 ; 450,-75 475,-100 525,-100 550,-75 ; 450,-75 450,75 ; 450,75 475,100 525,100 550,75 ; 550,-75 575,-100 625,-100 650,-75 ; 550,-75 550,75 ; 550,75 575,100 625,100 650,75 ; 650,-75 675,-100 725,-100 750,-75 750,75 725,100 675,100 650,75 ; 650,-75 650,75
Mechanical 16:
  rectangle: -710,-60 -690,-40
  rectangle: -710,40 -690,60
  rectangle: -610,40 -590,60
  rectangle: -610,-60 -590,-40
  rectangle: -510,40 -490,60
  rectangle: -510,-60 -490,-40
  rectangle: -410,40 -390,60
  rectangle: -310,40 -290,60
  rectangle: -210,40 -190,60
  rectangle: -410,-60 -390,-40
  rectangle: -310,-60 -290,-40
  rectangle: -210,-60 -190,-40
  rectangle: -110,40 -90,60
  rectangle: -110,-60 -90,-40
  rectangle: -10,40 10,60
  rectangle: -10,-60 10,-40
  rectangle: 90,40 110,60
  rectangle: 90,-60 110,-40
  rectangle: 190,40 210,60
  rectangle: 190,-60 210,-40
  rectangle: 290,40 310,60
  rectangle: 290,-60 310,-40
  rectangle: 390,40 410,60
  rectangle: 390,-60 410,-40
  rectangle: 490,40 510,60
  rectangle: 490,-60 510,-40
  rectangle: 590,40 610,60
  rectangle: 590,-60 610,-40
  rectangle: 690,40 710,60
  rectangle: 690,-60 710,-40

## 2X15/90 [mil]
pads (30):
  oct 60x60 hole 40: 1(-700,-250) 2(-700,-150) 3(-600,-250) 4(-600,-150) 5(-500,-250) 6(-500,-150) 7(-400,-250) 8(-400,-150) 9(-300,-250) 10(-300,-150) 11(-200,-250) 12(-200,-150) 13(-100,-250) 14(-100,-150) 15(0,-250) 16(0,-150) 17(100,-250) 18(100,-150) 19(200,-250) 20(200,-150) 21(300,-250) 22(300,-150) 23(400,-250) 24(400,-150) 25(500,-250) 26(500,-150) 27(600,-250) 28(600,-150) 29(700,-250) 30(700,-150)
Top Overlay:
  rectangle: -715,25 -685,45
  rectangle: -615,25 -585,45
  rectangle: -515,25 -485,45
  rectangle: -415,25 -385,45
  rectangle: -315,25 -285,45
  rectangle: -215,25 -185,45
  rectangle: -115,25 -85,45
  rectangle: -15,25 15,45
  rectangle: 85,25 115,45
  rectangle: 185,25 215,45
  rectangle: 285,25 315,45
  rectangle: 385,25 415,45
  rectangle: 485,25 515,45
  rectangle: 585,25 615,45
  rectangle: 685,25 715,45
  rectangle: -715,-115 -685,-75
  rectangle: -615,-115 -585,-75
  rectangle: -715,-215 -685,-185
  rectangle: -615,-215 -585,-185
  rectangle: -515,-115 -485,-75
  rectangle: -415,-115 -385,-75
  rectangle: -515,-215 -485,-185
  rectangle: -415,-215 -385,-185
  rectangle: -315,-115 -285,-75
  rectangle: -315,-215 -285,-185
  rectangle: -215,-115 -185,-75
  rectangle: -115,-115 -85,-75
  rectangle: -215,-215 -185,-185
  rectangle: -115,-215 -85,-185
  rectangle: -15,-115 15,-75
  rectangle: 85,-115 115,-75
  rectangle: -15,-215 15,-185
  rectangle: 85,-215 115,-185
  rectangle: 185,-115 215,-75
  rectangle: 185,-215 215,-185
  rectangle: 285,-115 315,-75
  rectangle: 385,-115 415,-75
  rectangle: 285,-215 315,-185
  rectangle: 385,-215 415,-185
  rectangle: 485,-115 515,-75
  rectangle: 585,-115 615,-75
  rectangle: 485,-215 515,-185
  rectangle: 585,-215 615,-185
  rectangle: 685,-115 715,-75
  rectangle: 685,-215 715,-185
  lines w6: -650,-75 -750,-75 -750,25 -650,25 ; -650,-75 -650,25 ; -650,-75 -550,-75 ; -650,25 -550,25 ; -550,-75 -550,25 ; -550,-75 -450,-75 ; -550,25 -450,25 ; -450,-75 -450,25 ; -450,-75 -350,-75 ; -450,25 -350,25 ; -350,-75 -350,25 ; -350,-75 -250,-75 ; -350,25 -250,25 ; -250,-75 -250,25 ; -250,-75 -150,-75 ; -250,25 -150,25 ; -150,-75 -150,25 ; -150,-75 -50,-75 ; -150,25 -50,25 ; -50,-75 -50,25 ; -50,-75 50,-75 ; -50,25 50,25 ; 50,-75 50,25 ; 50,-75 150,-75 ; 50,25 150,25 ; 150,-75 150,25 ; 150,-75 250,-75 ; 150,25 250,25 ; 250,-75 250,25 ; 250,-75 350,-75 ; 250,25 350,25 ; 350,-75 350,25 ; 350,-75 450,-75 ; 350,25 450,25 ; 450,-75 450,25 ; 450,-75 550,-75 ; 450,25 550,25 ; 550,-75 550,25 ; 550,-75 650,-75 ; 550,25 650,25 ; 650,-75 650,25 ; 650,-75 750,-75 750,25 650,25
  lines w30: -700,50 -700,275 ; -600,50 -600,275 ; -500,50 -500,275 ; -400,50 -400,275 ; -300,50 -300,275 ; -200,50 -200,275 ; -100,50 -100,275 ; 0,50 0,275 ; 100,50 100,275 ; 200,50 200,275 ; 300,50 300,275 ; 400,50 400,275 ; 500,50 500,275 ; 600,50 600,275 ; 700,50 700,275
Mechanical 16:
  rectangle: -715,-185 -685,-115
  rectangle: -615,-185 -585,-115
  rectangle: -515,-185 -485,-115
  rectangle: -415,-185 -385,-115
  rectangle: -315,-185 -285,-115
  rectangle: -215,-185 -185,-115
  rectangle: -115,-185 -85,-115
  rectangle: -15,-185 15,-115
  rectangle: 85,-185 115,-115
  rectangle: 185,-185 215,-115
  rectangle: 285,-185 315,-115
  rectangle: 385,-185 415,-115
  rectangle: 485,-185 515,-115
  rectangle: 585,-185 615,-115
  rectangle: 685,-185 715,-115

## 2X16 [mil]
pads (32):
  oct 60x60 hole 40: 1(-750,-50) 2(-750,50) 3(-650,-50) 4(-650,50) 5(-550,-50) 6(-550,50) 7(-450,-50) 8(-450,50) 9(-350,-50) 10(-350,50) 11(-250,-50) 12(-250,50) 13(-150,-50) 14(-150,50) 15(-50,-50) 16(-50,50) 17(50,-50) 18(50,50) 19(150,-50) 20(150,50) 21(250,-50) 22(250,50) 23(350,-50) 24(350,50) 25(450,-50) 26(450,50) 27(550,-50) 28(550,50) 29(650,-50) 30(650,50) 31(750,-50) 32(750,50)
Top Overlay:
  lines w6: -700,-75 -725,-100 -775,-100 -800,-75 -800,75 -775,100 -725,100 -700,75 ; -700,-75 -675,-100 -625,-100 -600,-75 ; -700,-75 -700,75 ; -700,75 -675,100 -625,100 -600,75 ; -600,-75 -575,-100 -525,-100 -500,-75 ; -600,-75 -600,75 ; -600,75 -575,100 -525,100 -500,75 ; -500,-75 -475,-100 -425,-100 -400,-75 ; -500,-75 -500,75 ; -500,75 -475,100 -425,100 -400,75 ; -400,-75 -375,-100 -325,-100 -300,-75 ; -400,-75 -400,75 ; -400,75 -375,100 -325,100 -300,75 ; -300,-75 -275,-100 -225,-100 -200,-75 ; -300,-75 -300,75 ; -300,75 -275,100 -225,100 -200,75 ; -200,-75 -175,-100 -125,-100 -100,-75 ; -200,-75 -200,75 ; -200,75 -175,100 -125,100 -100,75 ; -100,-75 -75,-100 -25,-100 0,-75 ; -100,-75 -100,75 ; -100,75 -75,100 -25,100 0,75 ; 0,-75 25,-100 75,-100 100,-75 ; 0,-75 0,75 ; 0,75 25,100 75,100 100,75 ; 100,-75 125,-100 175,-100 200,-75 ; 100,-75 100,75 ; 100,75 125,100 175,100 200,75 ; 200,-75 225,-100 275,-100 300,-75 ; 200,-75 200,75 ; 200,75 225,100 275,100 300,75 ; 300,-75 325,-100 375,-100 400,-75 ; 300,-75 300,75 ; 300,75 325,100 375,100 400,75 ; 400,-75 425,-100 475,-100 500,-75 ; 400,-75 400,75 ; 400,75 425,100 475,100 500,75 ; 500,-75 525,-100 575,-100 600,-75 ; 500,-75 500,75 ; 500,75 525,100 575,100 600,75 ; 600,-75 625,-100 675,-100 700,-75 ; 600,-75 600,75 ; 600,75 625,100 675,100 700,75 ; 700,-75 725,-100 775,-100 800,-75 800,75 775,100 725,100 700,75 ; 700,-75 700,75
Mechanical 16:
  rectangle: -760,-60 -740,-40
  rectangle: -760,40 -740,60
  rectangle: -660,40 -640,60
  rectangle: -660,-60 -640,-40
  rectangle: -560,40 -540,60
  rectangle: -560,-60 -540,-40
  rectangle: -460,40 -440,60
  rectangle: -360,40 -340,60
  rectangle: -260,40 -240,60
  rectangle: -460,-60 -440,-40
  rectangle: -360,-60 -340,-40
  rectangle: -260,-60 -240,-40
  rectangle: -160,40 -140,60
  rectangle: -160,-60 -140,-40
  rectangle: -60,40 -40,60
  rectangle: -60,-60 -40,-40
  rectangle: 40,40 60,60
  rectangle: 40,-60 60,-40
  rectangle: 140,40 160,60
  rectangle: 140,-60 160,-40
  rectangle: 240,40 260,60
  rectangle: 240,-60 260,-40
  rectangle: 340,40 360,60
  rectangle: 340,-60 360,-40
  rectangle: 440,40 460,60
  rectangle: 440,-60 460,-40
  rectangle: 540,40 560,60
  rectangle: 540,-60 560,-40
  rectangle: 640,40 660,60
  rectangle: 640,-60 660,-40
  rectangle: 740,40 760,60
  rectangle: 740,-60 760,-40

## 2X16/90 [mil]
pads (32):
  oct 60x60 hole 40: 1(-750,-250) 2(-750,-150) 3(-650,-250) 4(-650,-150) 5(-550,-250) 6(-550,-150) 7(-450,-250) 8(-450,-150) 9(-350,-250) 10(-350,-150) 11(-250,-250) 12(-250,-150) 13(-150,-250) 14(-150,-150) 15(-50,-250) 16(-50,-150) 17(50,-250) 18(50,-150) 19(150,-250) 20(150,-150) 21(250,-250) 22(250,-150) 23(350,-250) 24(350,-150) 25(450,-250) 26(450,-150) 27(550,-250) 28(550,-150) 29(650,-250) 30(650,-150) 31(750,-250) 32(750,-150)
Top Overlay:
  rectangle: -765,25 -735,45
  rectangle: -665,25 -635,45
  rectangle: -565,25 -535,45
  rectangle: -465,25 -435,45
  rectangle: -365,25 -335,45
  rectangle: -265,25 -235,45
  rectangle: -165,25 -135,45
  rectangle: -65,25 -35,45
  rectangle: 35,25 65,45
  rectangle: 135,25 165,45
  rectangle: 235,25 265,45
  rectangle: 335,25 365,45
  rectangle: 435,25 465,45
  rectangle: 535,25 565,45
  rectangle: 635,25 665,45
  rectangle: 735,25 765,45
  rectangle: -765,-115 -735,-75
  rectangle: -665,-115 -635,-75
  rectangle: -765,-215 -735,-185
  rectangle: -665,-215 -635,-185
  rectangle: -565,-115 -535,-75
  rectangle: -465,-115 -435,-75
  rectangle: -565,-215 -535,-185
  rectangle: -465,-215 -435,-185
  rectangle: -365,-115 -335,-75
  rectangle: -365,-215 -335,-185
  rectangle: -265,-115 -235,-75
  rectangle: -165,-115 -135,-75
  rectangle: -265,-215 -235,-185
  rectangle: -165,-215 -135,-185
  rectangle: -65,-115 -35,-75
  rectangle: 35,-115 65,-75
  rectangle: -65,-215 -35,-185
  rectangle: 35,-215 65,-185
  rectangle: 135,-115 165,-75
  rectangle: 135,-215 165,-185
  rectangle: 235,-115 265,-75
  rectangle: 335,-115 365,-75
  rectangle: 235,-215 265,-185
  rectangle: 335,-215 365,-185
  rectangle: 435,-115 465,-75
  rectangle: 535,-115 565,-75
  rectangle: 435,-215 465,-185
  rectangle: 535,-215 565,-185
  rectangle: 635,-115 665,-75
  rectangle: 635,-215 665,-185
  rectangle: 735,-115 765,-75
  rectangle: 735,-215 765,-185
  lines w6: -700,-75 -800,-75 -800,25 -700,25 ; -700,-75 -700,25 ; -700,-75 -600,-75 ; -700,25 -600,25 ; -600,-75 -600,25 ; -600,-75 -500,-75 ; -600,25 -500,25 ; -500,-75 -500,25 ; -500,-75 -400,-75 ; -500,25 -400,25 ; -400,-75 -400,25 ; -400,-75 -300,-75 ; -400,25 -300,25 ; -300,-75 -300,25 ; -300,-75 -200,-75 ; -300,25 -200,25 ; -200,-75 -200,25 ; -200,-75 -100,-75 ; -200,25 -100,25 ; -100,-75 -100,25 ; -100,-75 0,-75 ; -100,25 0,25 ; 0,-75 0,25 ; 0,-75 100,-75 ; 0,25 100,25 ; 100,-75 100,25 ; 100,-75 200,-75 ; 100,25 200,25 ; 200,-75 200,25 ; 200,-75 300,-75 ; 200,25 300,25 ; 300,-75 300,25 ; 300,-75 400,-75 ; 300,25 400,25 ; 400,-75 400,25 ; 400,-75 500,-75 ; 400,25 500,25 ; 500,-75 500,25 ; 500,-75 600,-75 ; 500,25 600,25 ; 600,-75 600,25 ; 600,-75 700,-75 ; 600,25 700,25 ; 700,-75 700,25 ; 700,-75 800,-75 800,25 700,25
  lines w30: -750,50 -750,275 ; -650,50 -650,275 ; -550,50 -550,275 ; -450,50 -450,275 ; -350,50 -350,275 ; -250,50 -250,275 ; -150,50 -150,275 ; -50,50 -50,275 ; 50,50 50,275 ; 150,50 150,275 ; 250,50 250,275 ; 350,50 350,275 ; 450,50 450,275 ; 550,50 550,275 ; 650,50 650,275 ; 750,50 750,275
Mechanical 16:
  rectangle: -765,-185 -735,-115
  rectangle: -665,-185 -635,-115
  rectangle: -565,-185 -535,-115
  rectangle: -465,-185 -435,-115
  rectangle: -365,-185 -335,-115
  rectangle: -265,-185 -235,-115
  rectangle: -165,-185 -135,-115
  rectangle: -65,-185 -35,-115
  rectangle: 35,-185 65,-115
  rectangle: 135,-185 165,-115
  rectangle: 235,-185 265,-115
  rectangle: 335,-185 365,-115
  rectangle: 435,-185 465,-115
  rectangle: 535,-185 565,-115
  rectangle: 635,-185 665,-115
  rectangle: 735,-185 765,-115